# EAGLE library part MAX232E (library MAX232E)
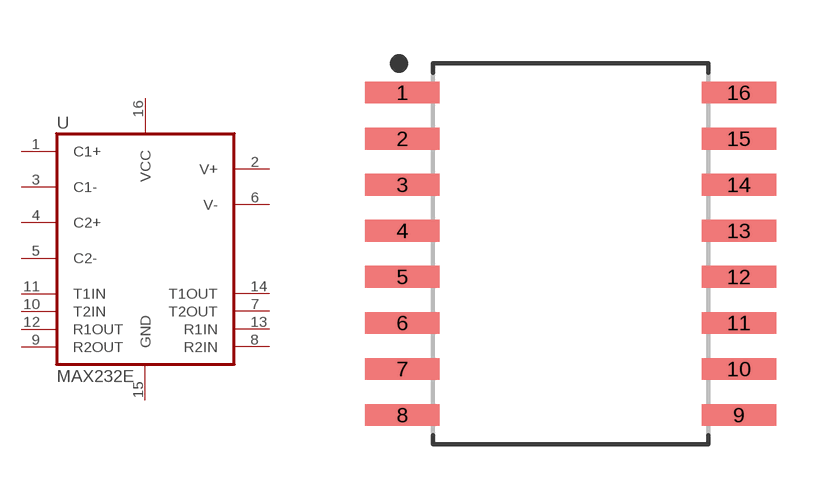
[diagram p0: symbol with the pads of SOIC127P1030X265-16N; footprint SOIC127P1030X265-16N]

Designator prefix U

## MAX232E  [SOIC127P1030X265-16N]
1  C1+
2  V+
3  C1-
4  C2+
5  C2-
6  V-
7  T2OUT  out
8  R2IN  in
9  R2OUT  out
10  T2IN  in
11  T1IN  in
12  R1OUT  out
13  R1IN  in
14  T1OUT  out
15  GND
16  VCC

## Footprint SOIC127P1030X265-16N (pad centres in mm)
16-SOIC, 1.27 mm pitch, 10.30 mm span, 10.30 X 7.50 X 2.65 mm body 16-pin SOIC package with 1.27 mm pitch, 10.30 mm span with body size 10.30 X 7.50 X 2.65 mm
smd 2.056 x 0.599: 1 -4.642,4.445; 2 -4.642,3.175; 3 -4.642,1.905; 4 -4.642,0.635; 5 -4.642,-0.635; 6 -4.642,-1.905; 7 -4.642,-3.175; 8 -4.642,-4.445; 9 4.642,-4.445; 10 4.642,-3.175; 11 4.642,-1.905; 12 4.642,-0.635; 13 4.642,0.635; 14 4.642,1.905; 15 4.642,3.175; 16 4.642,4.445